# Altium footprint library Wurth_Elektronik_Passive_rev16a.PCBLIB: 810 footprints (part 22 of 51)
Each footprint in its own frame and in the unit in brackets; x right, y up, seen from the top. Pads: shape width x height; smd on the part's side, far side on the other; paste and mask are expansions set on the pad; w line width, h text height; cw(c..) or ccw(c..) is an arc to the next point about the centre after c.
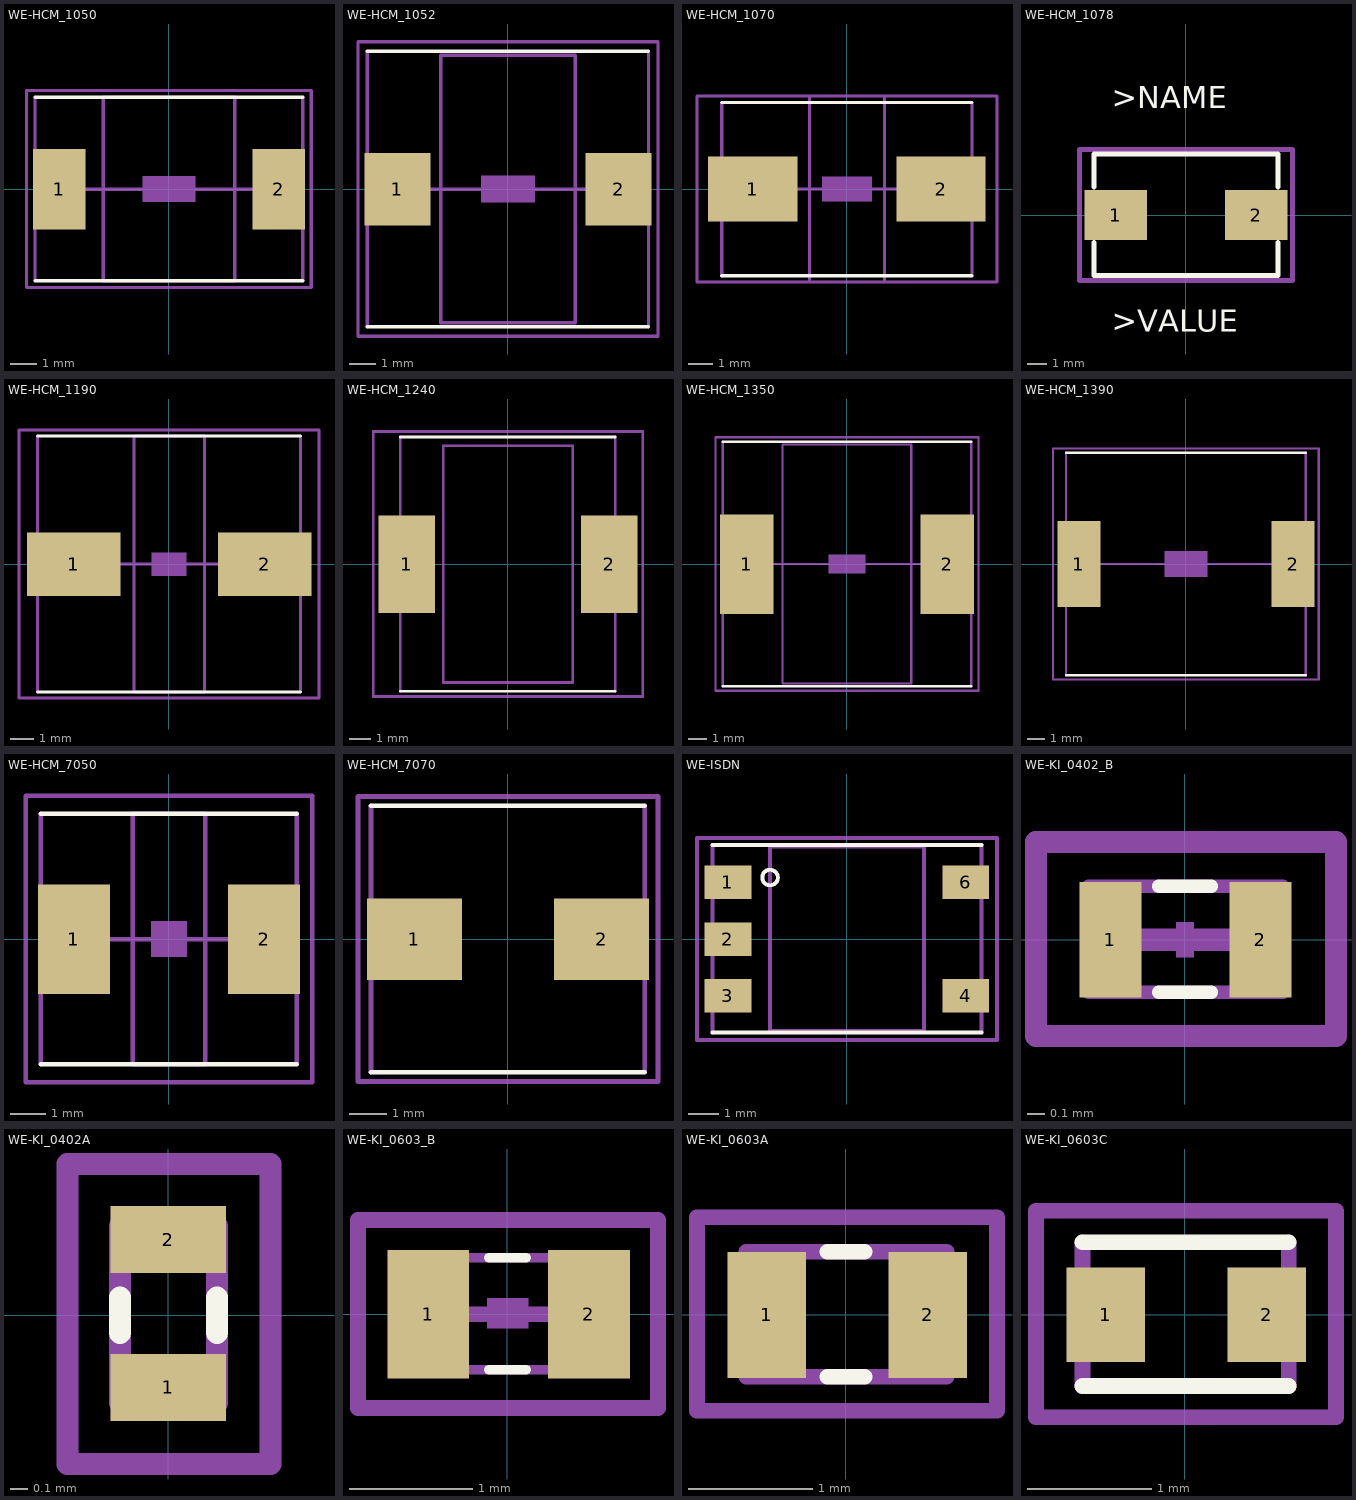
[diagram p21: the footprints below, top view; thin cyan lines are the x and y axes]

## WE-HCM_1050 [mil]
pads (2):
  rect 79x121 smd: 1(-164.37,0) 2(165,0)
Top Overlay:
  lines w5: -200.79,-137.8 201,-137.8 ; -200.79,138 201,138
Mechanical 2:
  text ">NAME" at -125,-219.69 h77.5
Mechanical 4:
  text ">VALUE" at -125,170 h77.5
Mechanical 10:
  lines w5: -98.43,-137.8 -98.43,138 99,138 99,-137.8 -98.43,-137.8
Mechanical 16:
  rectangle: -39.37,-19.68 40,20
  lines w5: -200.79,-137.8 -200.79,138 ; -137.8,0 -39.37,0 ; 40,0 138,0 ; 201,-137.8 201,138
Mechanical 27:
  lines w5: -213.58,-147.64 -213.58,148 214,148 214,-147.64 -213.58,-147.64

## WE-HCM_1052 [mil]
pads (2):
  rect 97x107 smd: 1(-162.4,0) 2(163,0)
Top Overlay:
  lines w5: -206.69,-202.76 207,-202.76 ; -206.69,203 207,203
Mechanical 2:
  text ">NAME" at -125,-310.24 h77.5
Mechanical 4:
  text ">VALUE" at -125,261 h77.5
Mechanical 10:
  lines w5: -98.43,-196.85 -98.43,197 99,197 99,-196.85 -98.43,-196.85
Mechanical 16:
  rectangle: -39.37,-19.68 40,20
  lines w5: -206.69,-202.76 -206.69,203 ; -137.8,0 -39.37,0 ; 40,0 138,0 ; 207,-202.76 207,203
Mechanical 27:
  lines w5: -220.47,-216.54 -220.47,217 221,217 221,-216.54 -220.47,-216.54

## WE-HCM_1070 [mil]
pads (2):
  rect 142x103 smd: 1(-149.61,0) 2(150,0)
Top Overlay:
  lines w5: -198.82,-137.8 199,-137.8 ; -198.82,138 199,138
Mechanical 2:
  text ">NAME" at -125,-219.69 h77.5
Mechanical 4:
  text ">VALUE" at -125,170 h77.5
Mechanical 10:
  lines w5: -59.06,-147.64 -59.06,148 60,148 60,-147.64 -59.06,-147.64
Mechanical 16:
  rectangle: -39.37,-19.68 40,20
  lines w5: -198.82,-137.8 -198.82,138 ; -137.8,0 -39.37,0 ; 40,0 138,0 ; 199,-137.8 199,138
Mechanical 27:
  lines w5: -238.19,-147.64 -238.19,148 239,148 239,-147.64 -238.19,-147.64

## WE-HCM_1078 [mil]
pads (2):
  rect 126x100 smd: 1(-141.73,0) 2(142,0)
Top Overlay:
  lines w10: -185.04,-55.12 -185.04,-122.05 186,-122.05 186,-55.12 ; -185.04,56 -185.04,123 186,123 186,56
  text ">NAME" at -150,200 h77.5
  text ">VALUE" at -150,-250 h77.5
Mechanical 27:
  lines w10: -214.57,-131.89 -214.57,132 215,132 215,-131.89 -214.57,-131.89

## WE-HCM_1190 [mil]
pads (2):
  rect 158x107 smd: 1(-161.42,0) 2(162,0)
Top Overlay:
  lines w5: -222.44,-216.54 223,-216.54 ; -222.44,217 223,217
Mechanical 2:
  text ">NAME" at -328.8,245 h77.5
Mechanical 4:
  text ">VALUE" at -338.65,-294.72 h77.5
Mechanical 10:
  lines w5: -59.06,-216.54 -59.06,217 60,217 60,-216.54 -59.06,-216.54
Mechanical 16:
  rectangle: -29.53,-19.68 30,20
  lines w5: -222.44,-216.54 -222.44,217 ; -147.64,0 148,0 ; 223,-216.54 223,217
Mechanical 27:
  lines w5: -253.94,-226.38 -253.94,227 254,227 254,-226.38 -253.94,-226.38

## WE-HCM_1240 [mil]
pads (2):
  rect 103x178 smd: 1(-185.04,0) 2(186,0)
Top Overlay:
  lines w5: -196.85,-232.28 197,-232.28 ; -196.85,233 197,233
Mechanical 2:
  text ">NAME" at -255.81,280 h77.5
Mechanical 4:
  text ">VALUE" at -255.81,-329.52 h77.5
Mechanical 10:
  lines w5: -118.11,-216.54 -118.11,217 119,217 119,-216.54 -118.11,-216.54
Mechanical 16:
  lines w5: -196.85,-232.28 -196.85,233 ; 197,-232.28 197,233
Mechanical 27:
  lines w5: -246.06,-242.13 -246.06,243 247,243 247,-242.13 -246.06,-242.13

## WE-HCM_1350 [mil]
pads (2):
  rect 115x213 smd: 1(-214.57,0) 2(215,0)
Top Overlay:
  lines w5: -265.75,-261.81 266,-261.81 ; -265.75,262 266,262
Mechanical 2:
  text ">NAME" at -125,-349.61 h77.5
Mechanical 4:
  text ">VALUE" at -125,300 h77.5
Mechanical 10:
  lines w5: -137.8,-255.91 -137.8,256 138,256 138,-255.91 -137.8,-255.91
Mechanical 16:
  rectangle: -39.37,-19.68 40,20
  lines w5: -265.75,-261.81 -265.75,262 ; -216.54,0 -39.37,0 ; 40,0 217,0 ; 266,-261.81 266,262
Mechanical 27:
  lines w5: -281.5,-271.65 -281.5,272 282,272 282,-271.65 -281.5,-271.65

## WE-HCM_1390 [mil]
pads (2):
  rect 99x197 smd: 1(-246.06,0) 2(247,0)
Top Overlay:
  lines w5: -275.59,-255.91 276,-255.91 ; -275.59,256 276,256
Mechanical 2:
  text ">NAME" at -268.31,304 h77.5
Mechanical 4:
  text ">VALUE" at -268.31,-353.71 h77.5
Mechanical 16:
  rectangle: -49.21,-29.53 50,30
  lines w5: -275.59,-255.91 -275.59,256 ; -236.22,0 237,0 ; 276,-255.91 276,256
Mechanical 27:
  lines w5: -305.12,-265.75 -305.12,266 306,266 306,-265.75 -305.12,-265.75

## WE-HCM_7050 [mil]
pads (2):
  rect 79x121 smd: 1(-104.33,0) 2(105,0)
Top Overlay:
  lines w5: -140.75,-137.8 141,-137.8 ; -140.75,138 141,138
Mechanical 2:
  text ">NAME" at -118.11,197 h77.5
Mechanical 4:
  text ">VALUE" at -118.11,-255.91 h77.5
Mechanical 10:
  lines w5: -39.37,-137.8 -39.37,138 40,138 40,-137.8 -39.37,-137.8
Mechanical 16:
  rectangle: -19.68,-19.68 20,20
  lines w5: -140.75,-137.8 -140.75,138 ; -78.74,0 -19.68,0 ; 20,0 79,0 ; 141,-137.8 141,138
Mechanical 27:
  lines w5: -157.48,-157.48 -157.48,158 158,158 158,-157.48 -157.48,-157.48

## WE-HCM_7070 [mil]
pads (2):
  rect 101x87 smd: 1(-99.41,0) 2(100,0)
Top Overlay:
  lines w5: -145.67,-141.73 146,-141.73 ; -145.67,142 146,142
Mechanical 2:
  text ">NAME" at -145.67,-248.03 h77.5
Mechanical 4:
  text ">VALUE" at -145.67,197 h77.5
Mechanical 16:
  lines w5: -145.67,-141.73 -145.67,142 ; 146,-141.73 146,142
Mechanical 27:
  lines w5: -159.45,-151.57 -159.45,152 160,152 160,-151.57 -159.45,-151.57

## WE-ISDN [mil]
pads (5):
  rect 60x43 smd: 1(-152.56,73) 2(-152.56,0) 3(-152.56,-72.83) 4(153,-72.83) 6(153,73)
Top Overlay:
  circle w5: c-98.43,79 r10
  lines w5: -172.44,-120.08 173,-120.08 ; -172.44,121 173,121
Mechanical 2:
  text ">NAME" at -177.17,154 h77.5
Mechanical 4:
  text ">VALUE" at -177.17,-196.85 h77.5
Mechanical 10:
  lines w5: -98.43,-118.11 -98.43,119 99,119 99,-118.11 -98.43,-118.11
Mechanical 16:
  lines w5: -172.44,-120.08 -172.44,121 ; 173,-120.08 173,121
Mechanical 27:
  lines w5: -192.32,-129.92 -192.32,130 193,130 193,-129.92 -192.32,-129.92

## WE-KI_0402_B [mil]
pads (2):
  rect 14x26 smd: 1(-16.73,0) 2(17,0)
Top Overlay:
  lines w3: -5.91,-11.81 6,-11.81 ; -5.91,12 6,12
Mechanical 2:
  text ">NAME" at -27.5,-37.5 h18.6
Mechanical 4:
  text ">VALUE" at -27.5,25 h18.6
Mechanical 16:
  region: 2.02,-3.95 2.02,3.98 -1.95,3.98 -1.95,-3.95
  lines w3: -21.65,-11.81 22,-11.81 22,12 -21.65,12 -21.65,-11.81
  lines w5: -18.9,0 19,0
Mechanical 27:
  lines w5: -33.46,-21.65 -33.46,22 34,22 34,-21.65 -33.46,-21.65

## WE-KI_0402A [mil]
pads (2):
  rect 26x15 smd: 1(0,-16.24) 2(0,17)
Top Overlay:
  lines w5: -10.83,-3.94 -10.83,4 ; 11,-3.94 11,4
Mechanical 2:
  text ">NAME" at -19.68,-59.06 h18.6
Mechanical 4:
  text ">VALUE" at -19.68,40 h18.6
Mechanical 16:
  lines w5: -10.83,-19.68 -10.83,20 11,20 11,-19.68 -10.83,-19.68
Mechanical 27:
  lines w5: -22.64,-33.46 23,-33.46 23,34 -22.64,34 -22.64,-33.46

## WE-KI_0603_B [mil]
pads (2):
  rect 26x41 smd: 1(-25.2,0) 2(26,0)
Top Overlay:
  lines w3: -5.91,-17.72 6,-17.72 ; -5.91,18 6,18
Mechanical 2:
  text ">NAME" at -32.5,-52.5 h37.2
Mechanical 4:
  text ">VALUE" at -32.5,28 h37.2
Mechanical 16:
  region: 6.79,-4.51 6.79,5.21 -6.51,5.21 -6.51,-4.51
  lines w3: -31.5,-17.72 32,-17.72 32,18 -31.5,18 -31.5,-17.72
  lines w5: -25.2,0 26,0
Mechanical 27:
  lines w5: -47.64,-29.92 -47.64,30 48,30 48,-29.92 -47.64,-29.92

## WE-KI_0603A [mil]
pads (2):
  rect 25x40 smd: 1(-25.1,0) 2(26,0)
Top Overlay:
  lines w5: -5.91,-19.68 6,-19.68 ; -5.91,20 6,20
Mechanical 2:
  text ">NAME" at -47.24,40 h18.6
Mechanical 4:
  text ">VALUE" at -47.24,-51.18 h18.6
Mechanical 16:
  lines w5: -31.5,-19.68 32,-19.68 32,20 -31.5,20 -31.5,-19.68
Mechanical 27:
  lines w5: -47.24,-30.51 -47.24,31 48,31 48,-30.51 -47.24,-30.51

## WE-KI_0603C [mil]
pads (2):
  rect 25x30 smd: 1(-25.1,0) 2(26,0)
Top Overlay:
  lines w5: -32.48,-22.64 33,-22.64 ; -32.48,23 33,23
Mechanical 2:
  text ">NAME" at -43.31,-59.06 h18.6
Mechanical 4:
  text ">VALUE" at -43.31,48 h18.6
Mechanical 16:
  lines w5: -32.48,-22.64 -32.48,23 ; 33,-22.64 33,23
Mechanical 27:
  lines w5: -47.24,-32.48 -47.24,33 48,33 48,-32.48 -47.24,-32.48